# Altium integrated library Arduino_UNO.IntLib: 1 symbol
Pins are listed as number, name and electrical type; pins without a type are passive.

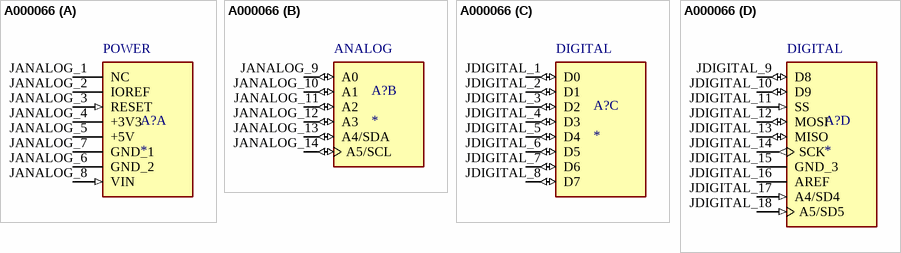
[diagram p0: symbol A000066]

## A000066
designator A?
Arduino UNO Rev3 Microcontroller Board, ATmega328P | Arduino A000066; SnapEDA_Link: https://www.snapeda.com/parts/A000066/Arduino/view-part/?ref=snap; Package: Non-Standard Arduino; Value: *; MF: Arduino; MP: A000066; Check_prices: https://www.snapeda.com/parts/A000066/Arduino/view-part/?ref=eda
footprint ARDUINO_A000066
part A pins: JANALOG_1 NC, JANALOG_2 IOREF (power), JANALOG_3 RESET (in), JANALOG_4 +3V3 (power), JANALOG_5 +5V (power), JANALOG_6 GND_2 (power), JANALOG_7 GND_1 (power), JANALOG_8 VIN (in)
part B pins: JANALOG_9 A0 (io), JANALOG_10 A1 (io), JANALOG_11 A2 (io), JANALOG_12 A3 (io), JANALOG_13 A4/SDA (io), JANALOG_14 A5/SCL (io)
part C pins: JDIGITAL_1 D0 (io), JDIGITAL_2 D1 (io), JDIGITAL_3 D2 (io), JDIGITAL_4 D3 (io), JDIGITAL_5 D4 (io), JDIGITAL_6 D5 (io), JDIGITAL_7 D6 (io), JDIGITAL_8 D7 (io)
part D pins: JDIGITAL_9 D8 (io), JDIGITAL_10 D9 (io), JDIGITAL_11 SS (in), JDIGITAL_12 MOSI (io), JDIGITAL_13 MISO (io), JDIGITAL_14 SCK (out), JDIGITAL_15 GND_3 (power), JDIGITAL_16 AREF (power), JDIGITAL_17 A4/SD4 (in), JDIGITAL_18 A5/SD5 (in)
part A text: POWER
part B text: ANALOG
part C text: DIGITAL
part D text: DIGITAL